# EAGLE library part WE-RJ45_LAN_10/100_BASET_POE_LED (library Wuerth_Elektronik_eiSos_Version_6-12)
WE-RJ45 LAN Transformer 10/100 BaseT PoE with LED - RJ45 connector with integrated transformer common mode choke - 350 µH min.OCL with 350 mA bias - Complies with IEEE 802.3 - Extended temperature range from 0°C to +70°C available -- ADSL Modem -- Embedded PC -- LAN network applications -- Hub, Router, Switches
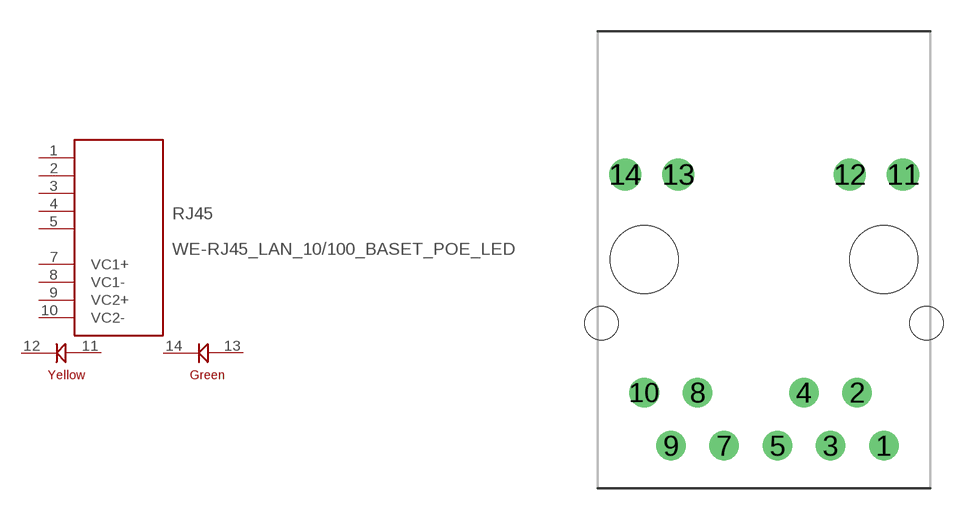
[diagram p93: symbol with the pads of WE-RJ45_LAN_10/100_BASET_7499211122A; footprint WE-RJ45_LAN_10/100_BASET_7499211122A]

Designator prefix RJ45

## WE-RJ45_LAN_10/100_BASET_POE_LED_7499211122  [WE-RJ45_LAN_10/100_BASET_7499211122A]
1  1  pas
2  2  pas
3  3  pas
4  4  pas
5  5  pas
7  VC1+  pas
8  VC1-  pas
9  VC2+  pas
10  VC2-  pas
11  11  pas
12  12  pas
13  13  pas
14  14  pas

## Footprint WE-RJ45_LAN_10/100_BASET_7499211122A (pad centres in mm)
WE-RJ45 LAN Transformer 10/100 BaseT with LED
drill 0.9 round: 1 5.715,-8.89; 2 4.445,-6.35; 3 3.175,-8.89; 4 1.905,-6.35; 5 0.635,-8.89; 7 -1.905,-8.89; 8 -3.175,-6.35; 9 -4.445,-8.89; 10 -5.715,-6.35
drill 1.02 round: 11 6.63,4.06; 12 4.09,4.06; 13 -4.09,4.06; 14 -6.63,4.06
hole 3.25 at 5.715,0
hole 3.25 at -5.715,0
hole 1.6 at 7.745,-3.05
hole 1.6 at -7.745,-3.05